# EAGLE library part LM124 (library LARS_409_MC)
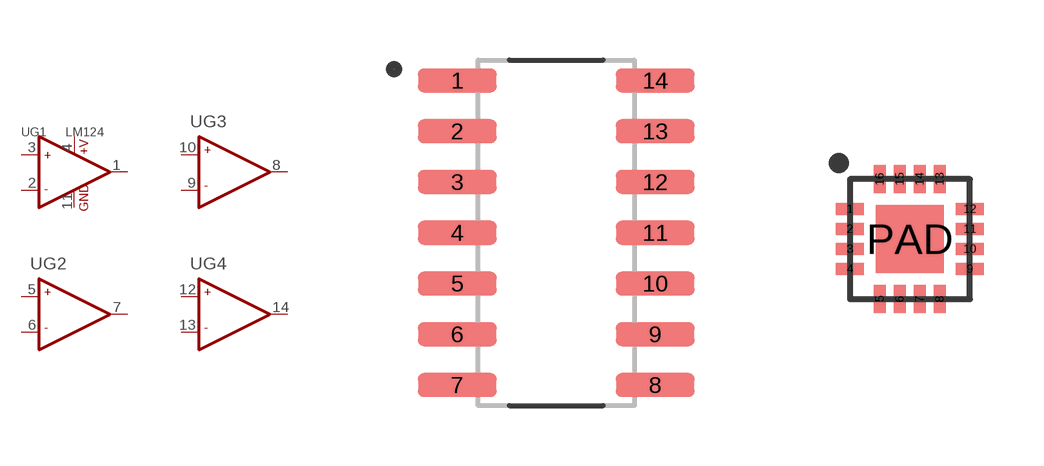
[diagram p2: symbol with the pads of SOIC-14; footprints SOIC-14, QFN16(3X3)]

Designator prefix U; gates G1=OPAMP2 G2=OPAMP1 G3=OPAMP1 G4=OPAMP1

## LM124SOIC  [SOIC-14]
1  G1:OUT1  out
2  G1:-IN1  in
3  G1:+IN1  in
4  G1:+V  pwr
5  G2:+IN2  in
6  G2:-IN2  in
7  G2:OUT2  out
8  G3:OUT2  out
9  G3:-IN2  in
10  G3:+IN2  in
11  G1:GND  pwr
12  G4:+IN2  in
13  G4:-IN2  in
14  G4:OUT2  out

## LM124QFN  [QFN16(3X3)]
1  G1:+IN1  in
2  G1:+V  pwr
4  G2:+IN2  in
5  G2:-IN2  in
6  G2:OUT2  out
7  G3:OUT2  out
8  G3:-IN2  in
9  G3:+IN2  in
11  G1:GND  pwr
12  G4:+IN2  in
13  G4:-IN2  in
14  G4:OUT2  out
15  G1:OUT1  out
16  G1:-IN1  in
PAD  G1:GND  pwr

## Footprint SOIC-14 (pad centres in mm)
14-SOIC, 1.27 mm pitch, 6.00 mm span, 9.90 X 3.90 X 1.75 mm body 14-pin SOIC package with 1.27 mm pitch, 6.00 mm span with body size 9.90 X 3.90 X 1.75 mm
smd 1.97 x 0.6: 1 -2.475,3.81; 2 -2.475,2.54; 3 -2.475,1.27; 4 -2.475,0; 5 -2.475,-1.27; 6 -2.475,-2.54; 7 -2.475,-3.81; 8 2.475,-3.81; 9 2.475,-2.54; 10 2.475,-1.27; 11 2.475,0; 12 2.475,1.27; 13 2.475,2.54; 14 2.475,3.81

## Footprint QFN16(3X3) (pad centres in mm)
smd 0.7 x 0.3: 1 -1.5,0.75; 2 -1.5,0.25; 3 -1.5,-0.25; 4 -1.5,-0.75; 9 1.5,-0.75; 10 1.5,-0.25; 11 1.5,0.25; 12 1.5,0.75
smd 0.3 x 0.7: 5 -0.75,-1.5; 6 -0.25,-1.5; 7 0.25,-1.5; 8 0.75,-1.5; 13 0.75,1.5; 14 0.25,1.5; 15 -0.25,1.5; 16 -0.75,1.5
smd 1.7 x 1.7: PAD 0,0